# Altium footprint library PcbLib.PcbLib: 13 footprints
Each footprint in its own frame and in the unit in brackets; x right, y up, seen from the top. Pads: shape width x height; smd on the part's side, far side on the other; paste and mask are expansions set on the pad; w line width, h text height; cw(c..) or ccw(c..) is an arc to the next point about the centre after c.
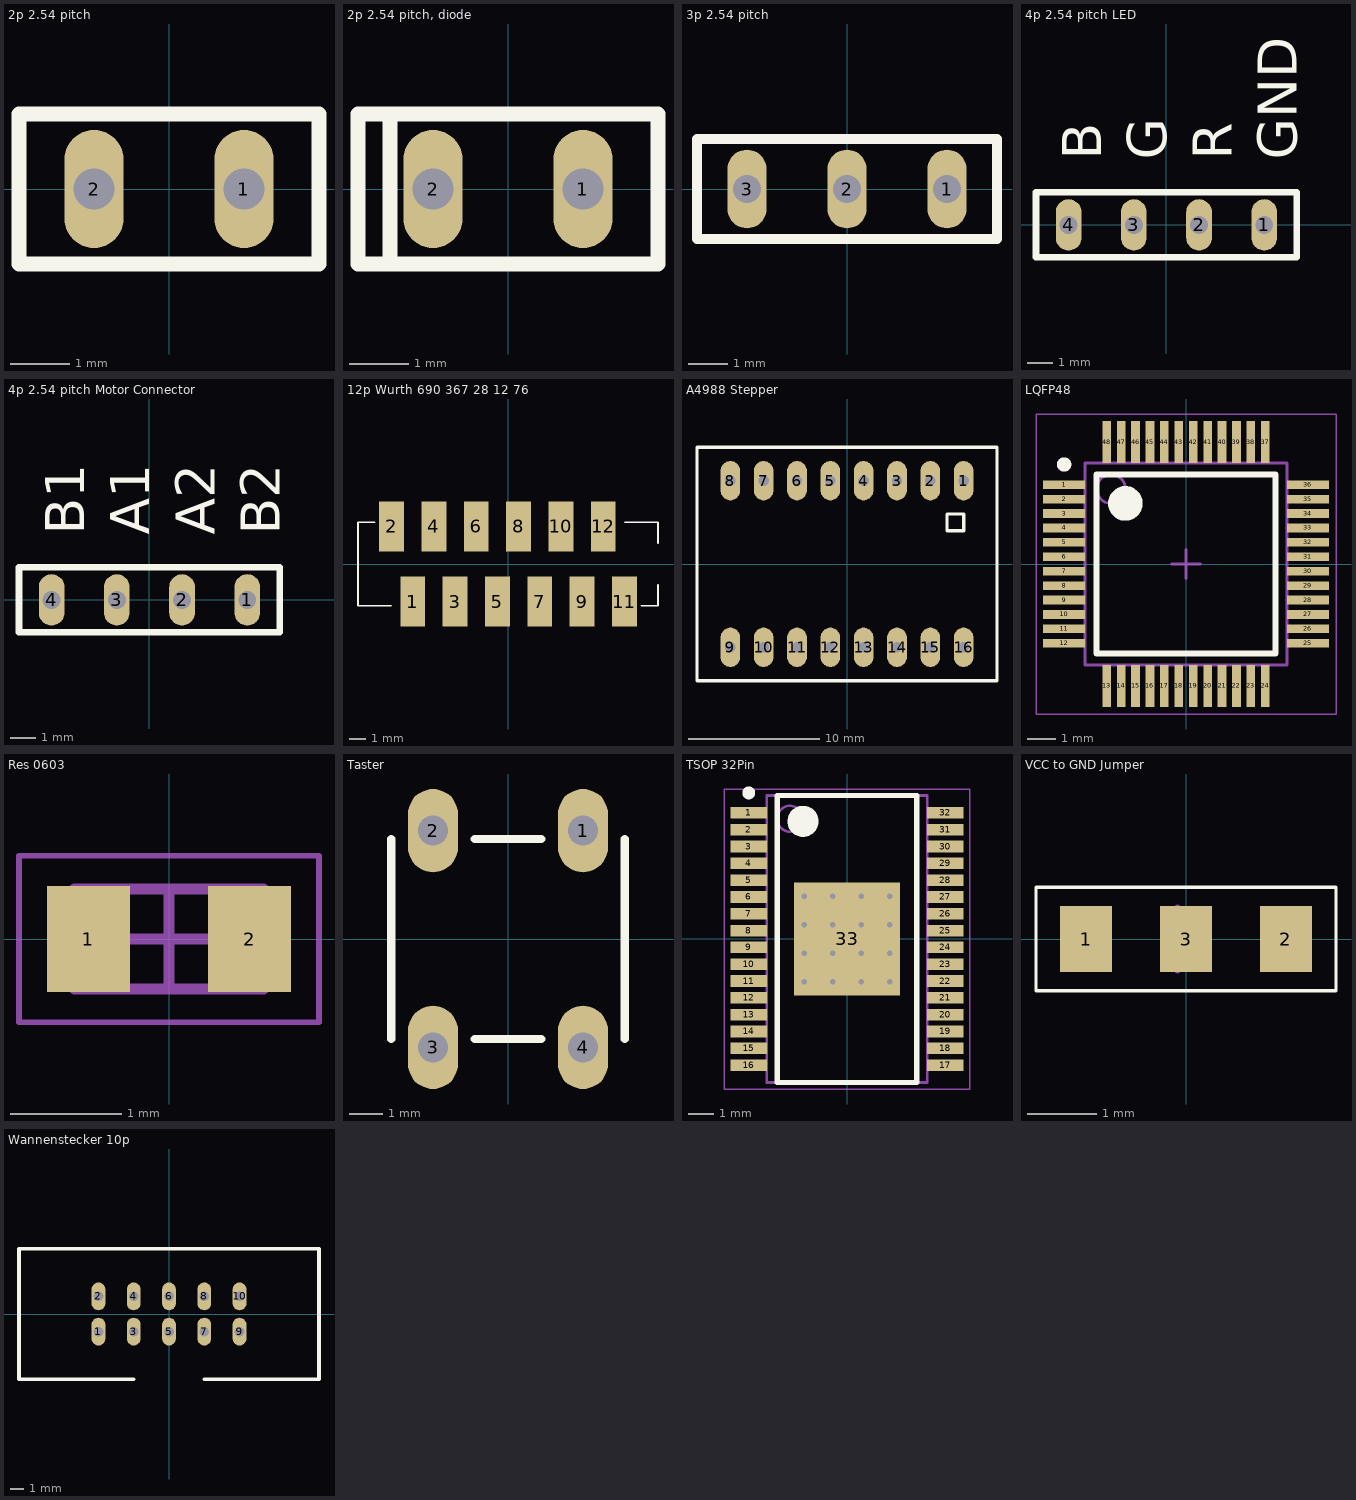
[diagram p0: the footprints below, top view; thin cyan lines are the x and y axes]

## 2p 2.54 pitch [mm]
pads (2):
  oval 1x2 hole 0.7: 1(1.27,0) 2(-1.27,0)
Top Overlay:
  lines w0.254: -2.54,-1.27 2.54,-1.27 2.54,1.27 -2.54,1.27 -2.54,-1.27

## 2p 2.54 pitch, diode [mm]
pads (2):
  oval 1x2 hole 0.7: 1(1.27,0) 2(-1.27,0)
Top Overlay:
  lines w0.254: -2,-1.27 -2,-1 -2,1.27 ; -2.54,-1.27 2.54,-1.27 2.54,1.27 -2.54,1.27 -2.54,-1.27

## 3p 2.54 pitch [mm]
pads (3):
  oval 1x2 hole 0.7: 1(2.54,0) 2(0,0) 3(-2.54,0)
Top Overlay:
  lines w0.254: -3.81,-1.27 3.81,-1.27 3.81,1.27 -3.81,1.27 -3.81,-1.27

## 4p 2.54 pitch LED [mm]
pads (4):
  oval 1x2 hole 0.7: 1(3.81,0) 2(1.27,0) 3(-1.27,0) 4(-3.81,0)
Top Overlay:
  lines w0.254: -5.08,-1.27 -5.08,1.27 5.08,1.27 5.08,-1.27 -5.08,-1.27
  text "B" at -2.54,2.54 h1.52
  text "G" at 0,2.54 h1.52
  text "R" at 2.54,2.54 h1.52
  text "GND" at 5.08,2.54 h1.52

## 4p 2.54 pitch Motor Connector [mm]
pads (4):
  oval 1x2 hole 0.7: 1(3.81,0) 2(1.27,0) 3(-1.27,0) 4(-3.81,0)
Top Overlay:
  lines w0.254: -5.08,-1.27 -5.08,1.27 5.08,1.27 5.08,-1.27 -5.08,-1.27
  text "B1" at -2.54,2.54 h1.52
  text "A1" at 0,2.54 h1.52
  text "A2" at 2.54,2.54 h1.52
  text "B2" at 5.08,2.54 h1.52

## 12p Wurth 690 367 28 12 76 [mm]
height 5
pads (12):
  rect 1.5x3 smd: 1(-5.715,-2.25) 2(-6.985,2.25) 3(-3.175,-2.25) 4(-4.445,2.25) 5(-0.635,-2.25) 6(-1.905,2.25) 7(1.905,-2.25) 8(0.635,2.25) 9(4.445,-2.25) 10(3.175,2.25) 11(6.985,-2.25) 12(5.715,2.25)
Top Overlay:
  lines w0.1: -8,2.5 -9,2.5 -9,-2.5 -7,-2.5 ; 7,2.5 9,2.5 9,1.25 ; 8,-2.5 9,-2.5 9,-1.25

## A4988 Stepper [mm] "Stepper Driver"
height 20
pads (16):
  oval 1.5x3 hole 0.8: 1(8.89,6.35) 2(6.35,6.35) 3(3.81,6.35) 4(1.27,6.35) 5(-1.27,6.35) 6(-3.81,6.35) 7(-6.35,6.35) 8(-8.89,6.35) 9(-8.89,-6.35) 10(-6.35,-6.35) 11(-3.81,-6.35) 12(-1.27,-6.35) 13(1.27,-6.35) 14(3.81,-6.35) 15(6.35,-6.35) 16(8.89,-6.35)
Top Overlay:
  lines w0.254: -11.43,-8.89 -11.43,8.89 11.43,8.89 11.43,-8.89 -11.43,-8.89 ; 7.62,2.54 8.89,2.54 8.89,3.81 7.62,3.81 7.62,2.54

## LQFP48 [mm] "LQFP, 48-Leads, Body 7.00x7.00mm, STM32F042C6T6"
height 1.6
pads (48):
  rect 1.45x0.3 smd: 1(-4.225,2.75) 2(-4.225,2.25) 3(-4.225,1.75) 4(-4.225,1.25) 5(-4.225,0.75) 6(-4.225,0.25) 7(-4.225,-0.25) 8(-4.225,-0.75) 9(-4.225,-1.25) 10(-4.225,-1.75) 11(-4.225,-2.25) 12(-4.225,-2.75) 25(4.225,-2.75) 26(4.225,-2.25) 27(4.225,-1.75) 28(4.225,-1.25) 29(4.225,-0.75) 30(4.225,-0.25) 31(4.225,0.25) 32(4.225,0.75) 33(4.225,1.25) 34(4.225,1.75) 35(4.225,2.25) 36(4.225,2.75)
  rect 0.3x1.45 smd: 13(-2.75,-4.225) 14(-2.25,-4.225) 15(-1.75,-4.225) 16(-1.25,-4.225) 17(-0.75,-4.225) 18(-0.25,-4.225) 19(0.25,-4.225) 20(0.75,-4.225) 21(1.25,-4.225) 22(1.75,-4.225) 23(2.25,-4.225) 24(2.75,-4.225) 37(2.75,4.225) 38(2.25,4.225) 39(1.75,4.225) 40(1.25,4.225) 41(0.75,4.225) 42(0.25,4.225) 43(-0.25,4.225) 44(-0.75,4.225) 45(-1.25,4.225) 46(-1.75,4.225) 47(-2.25,4.225) 48(-2.75,4.225)
Top Overlay:
  circle w0.6: c-2.1,2.1 r0.3
  circle w0.25: c-4.225,3.45 r0.125
  lines w0.2: -3.1,-3.1 3.1,-3.1 3.1,3.1 -3.1,3.1 -3.1,-3.1
Mechanical 13:
  circle w0.1: c-2.6,2.6 r0.5
  lines w0.1: -3.5,-3.5 3.5,-3.5 3.5,3.5 -3.5,3.5 -3.5,-3.5
Mechanical 15:
  lines w0.05: -5.2,-5.2 5.2,-5.2 5.2,5.2 -5.2,5.2 -5.2,-5.2
  lines w0.1: -0.5,0 0.5,0 ; 0,-0.5 0,0.5
3D body: height 1.6, standoff 0.05, extent -3.5,-3.5 3.5,3.5

## Res 0603 [mm] "Chip Resistor, 2-Leads, 0603, IPC Medium Density"
height 0.55
pads (2):
  rect 0.75x0.95 smd: 1(-0.725,0) 2(0.725,0)
Mechanical 13:
  lines w0.1: -0.85,-0.45 0.85,-0.45 0.85,0.45 -0.85,0.45 -0.85,-0.45
Mechanical 15:
  lines w0.05: -1.35,-0.75 1.35,-0.75 1.35,0.75 -1.35,0.75 -1.35,-0.75
  lines w0.1: -0.45,0 0.45,0 ; 0,-0.45 0,0.45
3D body: height 0.55, standoff 0, extent 0.6,-0.45 0.85,0.45
3D body: height 0.55, standoff 0, extent -0.85,-0.45 -0.6,0.45
3D body: height 0.55, standoff 0, extent -0.6,-0.45 0.6,0.45

## Taster [mm]
height 10
pads (4):
  oval 1.5x2.5 hole 0.9: 1(2.25,3.25) 2(-2.25,3.25) 3(-2.25,-3.25) 4(2.25,-3.25)
Top Overlay:
  lines w0.254: -3.5,-3 -3.5,0 -3.5,0.5 -3.5,3 ; -1,-3 1,-3 ; -1,3 1,3 ; 3.5,-3 3.5,3

## TSOP 32Pin [mm] "TSOP, 32-Leads, TLC5947, Body 11.00x6.10mm, Pitch 0.65mm, Thermal Pad 4.36x4.11mm, IPC Medium Density"
height 1.2
pads (33):
  rect 1.4x0.45 smd: 1(-3.8,4.875) 2(-3.8,4.225) 3(-3.8,3.575) 4(-3.8,2.925) 5(-3.8,2.275) 6(-3.8,1.625) 7(-3.8,0.975) 8(-3.8,0.325) 9(-3.8,-0.325) 10(-3.8,-0.975) 11(-3.8,-1.625) 12(-3.8,-2.275) 13(-3.8,-2.925) 14(-3.8,-3.575) 15(-3.8,-4.225) 16(-3.8,-4.875) 17(3.8,-4.875) 18(3.8,-4.225) 19(3.8,-3.575) 20(3.8,-2.925) 21(3.8,-2.275) 22(3.8,-1.625) 23(3.8,-0.975) 24(3.8,-0.325) 25(3.8,0.325) 26(3.8,0.975) 27(3.8,1.625) 28(3.8,2.275) 29(3.8,2.925) 30(3.8,3.575) 31(3.8,4.225) 32(3.8,4.875)
  rect 4.11x4.36 smd: 33(0,0)
via -1.65,1.65 diameter 0.5 hole 0.2
via -0.55,1.65 diameter 0.5 hole 0.2
via 0.55,1.65 diameter 0.5 hole 0.2
via 1.65,1.65 diameter 0.5 hole 0.2
via -1.65,0.55 diameter 0.5 hole 0.2
via -0.55,0.55 diameter 0.5 hole 0.2
via 0.55,0.55 diameter 0.5 hole 0.2
via 1.65,0.55 diameter 0.5 hole 0.2
via -1.65,-0.55 diameter 0.5 hole 0.2
via -0.55,-0.55 diameter 0.5 hole 0.2
via 0.55,-0.55 diameter 0.5 hole 0.2
via 1.65,-0.55 diameter 0.5 hole 0.2
via -1.65,-1.65 diameter 0.5 hole 0.2
via -0.55,-1.65 diameter 0.5 hole 0.2
via 0.55,-1.65 diameter 0.5 hole 0.2
via 1.65,-1.65 diameter 0.5 hole 0.2
Top Overlay:
  circle w0.25: c-3.8,5.65 r0.125
  circle w0.6: c-1.7,4.55 r0.3
  lines w0.2: -2.7,-5.55 -2.7,5.55 2.7,5.55 2.7,-5.55 -2.7,-5.55
Mechanical 13:
  circle w0.1: c-2.2,4.65 r0.5
  lines w0.1: -3.1,-5.55 -3.1,5.55 3.1,5.55 3.1,-5.55 -3.1,-5.55
Mechanical 15:
  lines w0.05: -4.75,-5.8 -4.75,5.8 4.75,5.8 4.75,-5.8 -4.75,-5.8
  lines w0.1: -0.5,0 0.5,0 ; 0,-0.5 0,0.5
3D body: height 1.2, standoff 0.05, extent -3.1,-5.55 3.1,5.55

## VCC to GND Jumper [mm]
height 0.5
pads (3):
  rect 0.75x0.95 smd: 1(-1.45,0) 2(1.45,0) 3(0,0)
Top Overlay:
  lines w0.05: -2.175,-0.75 2.175,-0.75 2.175,0.75 -2.175,0.75 -2.175,-0.75
Mechanical 13:
  lines w0.1: -0.125,-0.45 -0.125,0.45

## Wannenstecker 10p [mm] "Connector, 10p"
height 10
pads (10):
  oval 1x2 hole 0.7: 1(-5.08,-1.27) 2(-5.08,1.27) 3(-2.54,-1.27) 4(-2.54,1.27) 5(0,-1.27) 6(0,1.27) 7(2.54,-1.27) 8(2.54,1.27) 9(5.08,-1.27) 10(5.08,1.27)
Top Overlay:
  lines w0.254: -2.54,-4.7 -10.8,-4.7 -10.8,4.7 10.8,4.7 10.8,-4.7 2.54,-4.7